# EAGLE library part XBEE-ZIGBEE-TH (library Tristan+Robitaille_s+Library)
XBEE ZigBee RF Transceiver module Technical specifications : Communication protocol : ZigBee Communication frequency : 2.4 GHz Communication data rate : 1 Mbps Power output : 8 dBm Sensitivy : -102 dBm Serial interfaces : SPI, UART Voltage supply range : 2.1V to 3.6V Current consumption : 28 mA to 45 mA (receiving) and 33 mA to 59 mA (transmitting) Datasheet <https://www.digi.com/pdf/ds_xbee_zigbee.pdf> Digi-Key part : 602-1557-ND <http://www.digikey.ca/product-detail/en/digi-international/XB24CZ7PIT-004/602-1557-ND/5322371> Mouser part # : 888-XB24CZ7PIT-004-ND <http://ca.mouser.com/ProductDetail/Digi-International/XB24CZ7PIT-004/?qs=%2fha2pyFaduiqx1N4ugA6Z9VlryfSQBrCYXAdUDOUpeG%2fWTxfvAw8Wg%3d%3d> Manufacturer part # : XB24CZ7PIT-004
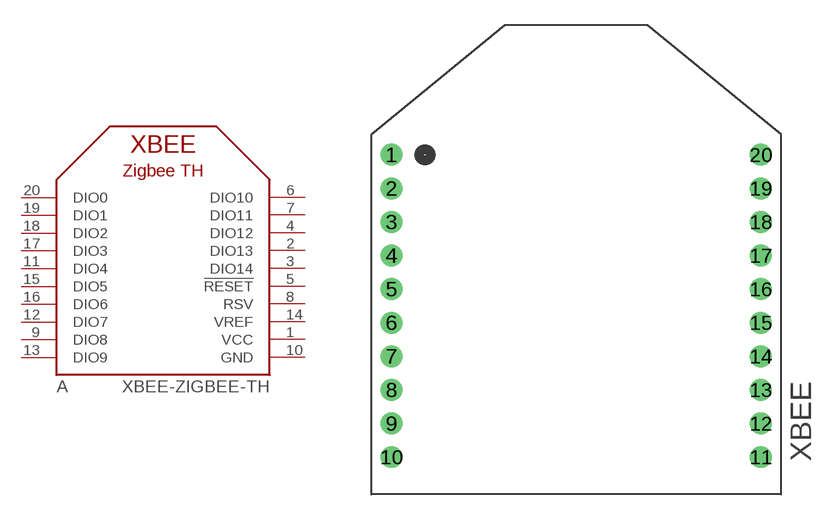
[diagram p29: symbol with the pads of XBEE-ZIGBEE-TH; footprint XBEE-ZIGBEE-TH]

Designator prefix A

## XBEE-ZIGBEE-TH (DIGIKEY#: 602-1557-ND; MANF: XBee ZigBee Transceiver Module; MANF#: XB24CZ7PIT-004; MOUSER#: 888-XB24CZ7PIT-004-ND)  [XBEE-ZIGBEE-TH]
1  VCC  pwr
2  DIO13
3  DIO14
4  DIO12
5  !RESET
6  DIO10
7  DIO11
8  RSV
9  DIO8
10  GND  pwr
11  DIO4
12  DIO7
13  DIO9
14  VREF  pas
15  DIO5
16  DIO6
17  DIO3
18  DIO2
19  DIO1
20  DIO0

## Footprint XBEE-ZIGBEE-TH (pad centres in mm)
drill 0.8: 1 -10.998,6.248; 2 -10.998,4.248; 3 -10.998,2.248; 4 -10.998,0.248; 5 -10.998,-1.752; 6 -10.998,-3.752; 7 -10.998,-5.752; 8 -10.998,-7.752; 9 -10.998,-9.752; 10 -10.998,-11.752; 11 10.998,-11.752; 12 10.998,-9.752; 13 10.998,-7.752; 14 10.998,-5.752; 15 10.998,-3.752; 16 10.998,-1.752; 17 10.998,0.248; 18 10.998,2.248; 19 10.998,4.248; 20 10.998,6.248